# Altium footprint library PCB - CONNECTOR - MOLEX - MOLEX 0734130040.PcbLib: 1 footprints
Each footprint in its own frame and in the unit in brackets; x right, y up, seen from the top. Pads: shape width x height; smd on the part's side, far side on the other; paste and mask are expansions set on the pad; w line width, h text height; cw(c..) or ccw(c..) is an arc to the next point about the centre after c.
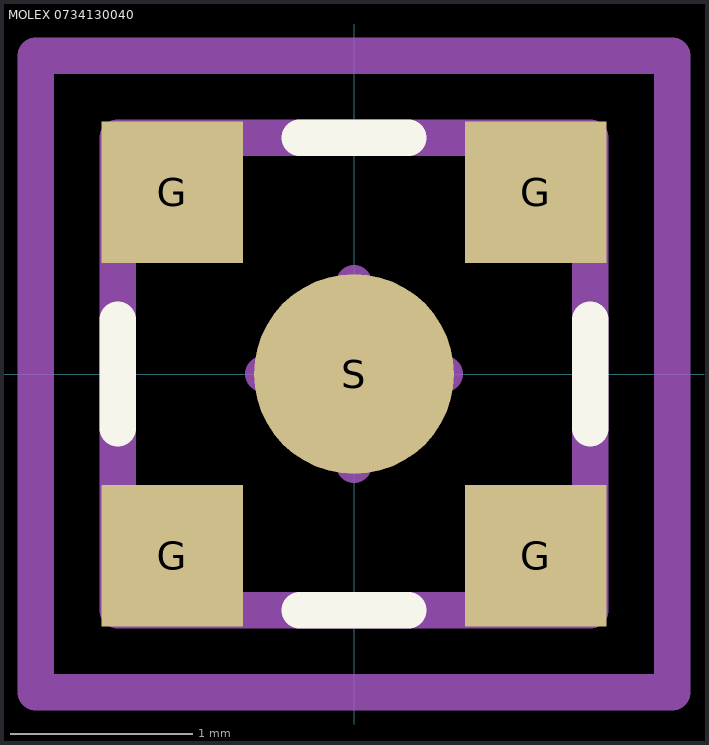
[diagram p0: the footprint, top view; thin cyan lines are the x and y axes]

## MOLEX 0734130040 [mm] "CONN SSMCX JACK STR 50 OHM SMD"
height 3.35
pads (5):
  rect 0.78x0.78 smd: G(-1,-1) G(-1,1) G(1,-1) G(1,1)
  round 1.1 smd: S(0,0)
Top Overlay:
  lines w0.2: -1.3,-0.3 -1.3,0.3 ; -0.3,-1.3 0.3,-1.3 ; -0.3,1.3 0.3,1.3 ; 1.3,-0.3 1.3,0.3
Top Assembly:
  lines w0.2: -0.5,0 0.5,0 ; 0,-0.5 0,0.5 ; -1.3,-1.3 -1.3,1.3 1.3,1.3 1.3,-1.3 -1.3,-1.3
Top Courtyard (Mech15):
  lines w0.2: -1.75,-1.75 -1.75,1.75 1.75,1.75 1.75,-1.75 -1.75,-1.75
3D body "Molex 0734130040.step": height 3.25, standoff 0, extent -1.275,-1.275 1.275,1.275